# Altium footprint library AAA3528ESGCT.PcbLib: 1 footprints
Each footprint in its own frame and in the unit in brackets; x right, y up, seen from the top. Pads: shape width x height; smd on the part's side, far side on the other; paste and mask are expansions set on the pad; w line width, h text height; cw(c..) or ccw(c..) is an arc to the next point about the centre after c.
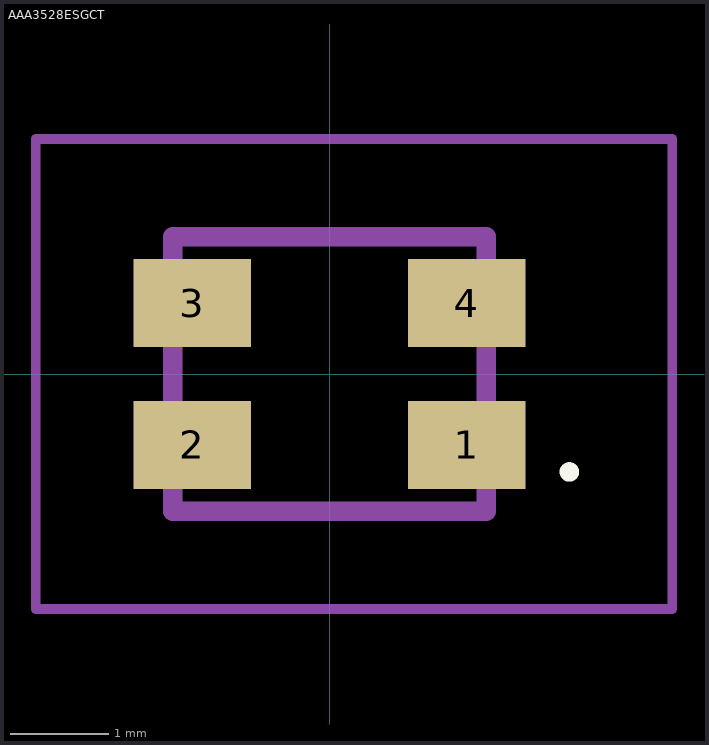
[diagram p0: the footprint, top view; thin cyan lines are the x and y axes]

## AAA3528ESGCT [mm]
pads (4):
  rect 1.2x0.9 smd: 1(1.4,-0.725) 2(-1.4,-0.725) 3(-1.4,0.725) 4(1.4,0.725)
Top Overlay:
  lines w0.1: 2.4,-1 cw(c2.45,-1) 2.5,-1 ; 2.4,-1 2.4,-1 ; 2.4,-1 ccw(c2.45,-1) 2.5,-1 ; 2.5,-1 2.5,-1
Mechanical 15:
  lines w0.2: -1.6,-1.4 1.6,-1.4 1.6,1.4 -1.6,1.4 -1.6,-1.4
Mechanical 20:
  lines w0.1: -3,-2.4 3.5,-2.4 3.5,2.4 -3,2.4 -3,-2.4